# Altium schematic symbol library 1718570004.SchLib: 1 symbol
Pins are listed as number, name and electrical type; pins without a type are passive.

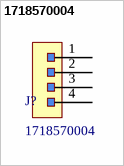
[diagram p0: symbol 1718570004]

## 1718570004
designator J?
CONN HEADER R/A 4POS 2.54MM; MFR: Molex; No. of Positions: 4; No. of Rows: 1; PN: 1718570004; Supplier 1: Newark; Supplier Part Number 1: 20X0687; ComponentLink1Description: Datasheet; ComponentLink1URL: https://www.molex.com/pdm_docs/ps/PS-171856-0001.pdf
footprint 640456-4
pins: 1, 2, 3, 4